# Altium integrated library Intersil DSP 14-Bit.IntLib: 1 symbol
Pins are listed as number, name and electrical type; pins without a type are passive.

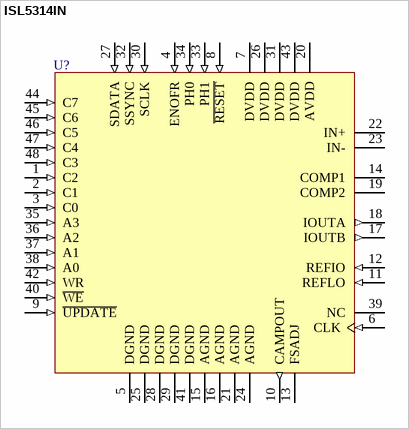
[diagram p0: symbol ISL5314IN]

## ISL5314IN
designator U?
CommLink Direct Digital Synthesizer; Published: 17-Jul-2002; LatestRevisionDate: 13-Apr-2006; LatestRevisionNote: IPC-7351 Footprint Added.; DatasheetVersion: Aug-2000; PackageVersion: Jan-1999; PackageReference: Q48.7x7A; Publisher: Altium Limited; PackageDescription: 48-Pin Thin Quad Flat Pack 0.5 mm Pitch; ComponentLink1Description: Manufacturer Link; ComponentLink1URL: http://www.intersil.com/cda/home/; ComponentLink2Description: Datasheet; ComponentLink2URL: http://www.intersil.com/data/fn/fn4901.pdf
footprint Q48.7x7A_N (Thin QFP, 48-Leads, Body 7x7mm, Pitch 0.5mm, IPC Medium Density)
footprint Q48.7x7A_L (Thin QFP, 48-Leads, Body 7x7mm, Pitch 0.5mm, IPC High Density)
footprint Q48.7x7A_M (Thin QFP, 48-Leads, Body 7x7mm, Pitch 0.5mm, IPC Low Density)
3D model ISL5314-Q48_7x7A (48-Pin Thin Quad Flat Pack 0.5 mm Pitch)
pins: 1 C2 (in), 2 C1 (in), 3 C0 (in), 4 ENOFR (in), 5 DGND (power), 6 CLK (in), 7 DVDD (power), 8 ~{RESET} (in), 9 ~{UPDATE} (in), 10 CAMPOUT (out), 11 REFLO (in), 12 REFIO (in), 13 FSADJ, 14 COMP1, 15 AGND (power), 16 AGND (power), 17 IOUTB (out), 18 IOUTA (out), 19 COMP2, 20 AVDD (power), 21 AGND (power), 22 IN+, 23 IN-, 24 AGND (power), 25 DGND (power), 26 DVDD (power), 27 SDATA (in), 28 DGND (power), 29 DGND (power), 30 SCLK (in), 31 DVDD (power), 32 SSYNC (in), 33 PH1 (in), 34 PH0 (in), 35 A3 (in), 36 A2 (in), 37 A1 (in), 38 A0 (in), 39 NC, 40 ~{WE} (in), 41 DGND (power), 42 WR (in), 43 DVDD (power), 44 C7 (in), 45 C6 (in), 46 C5 (in), 47 C4 (in), 48 C3 (in)